# EAGLE library part M74HC10B1R (library ST Microelectronics)
TRIPLE 3-INPUT NAND GATE
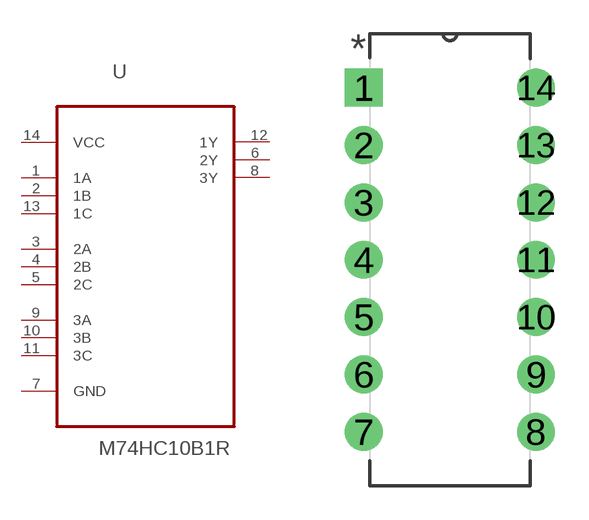
[diagram p213: symbol with the pads of DIP254P762X510-14; footprint DIP254P762X510-14]

Designator prefix U

## M74HC10B1R (MPN: M74HC10B1R; OC_FARNELL: 9755438; OC_NEWARK: 89K0852; PACKAGE: 14-DIP; SUPPLIER: STMICROELECTRONICS)  [DIP254P762X510-14]
1  1A  in
2  1B  in
3  2A  in
4  2B  in
5  2C  in
6  2Y  out
7  GND  pas
8  3Y  out
9  3A  in
10  3B  in
11  3C  in
12  1Y  out
13  1C  in
14  VCC  pwr

## Footprint DIP254P762X510-14 (pad centres in mm)
drill 1.118 square: 1 -7.62,15.24
drill 1.118: 2 -7.62,12.7; 3 -7.62,10.16; 4 -7.62,7.62; 5 -7.62,5.08; 6 -7.62,2.54; 7 -7.62,0; 8 0,0; 9 0,2.54; 10 0,5.08; 11 0,7.62; 12 0,10.16; 13 0,12.7; 14 0,15.24